# EAGLE library part SY8308RBC (library _mtvl.power)
SY8308 High Efficiency, 8.0A 40V Input Synchronous Step Down Regulator Datasheet <https://data.electronshik.ru/z/Datasheet/S/SY8308.pdf>
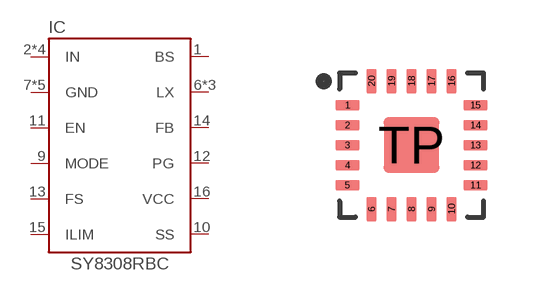
[diagram p26: symbol with the pads of QFN3.5×3.5-20; footprint QFN3.5×3.5-20]

Designator prefix IC

## SY8308RBC  [QFN3.5×3.5-20]
1  BS  in
2  IN  in
3  IN  in
4  IN  in
5  IN  in
6  LX  out
7  GND  pwr
8  GND  pwr
9  MODE
10  SS
11  EN  in
12  PG  out
13  FS
14  FB  in
15  ILIM
16  VCC
17  GND  pwr
18  GND  pwr
19  LX  out
20  LX  out
TP  GND  pwr

## Footprint QFN3.5×3.5-20 (pad centres in mm)
smd 0.6 x 0.25: 1 -1.6,1; 2 -1.6,0.5; 3 -1.6,0; 4 -1.6,-0.5; 5 -1.6,-1; 11 1.6,-1; 12 1.6,-0.5; 13 1.6,0; 14 1.6,0.5; 15 1.6,1
smd 0.25 x 0.6: 6 -1,-1.6; 7 -0.5,-1.6; 8 0,-1.6; 9 0.5,-1.6; 10 1,-1.6; 16 1,1.6; 17 0.5,1.6; 18 0,1.6; 19 -0.5,1.6; 20 -1,1.6
smd 1.4 x 1.4: TP 0,0